# EAGLE library part AS1116 (library ams)
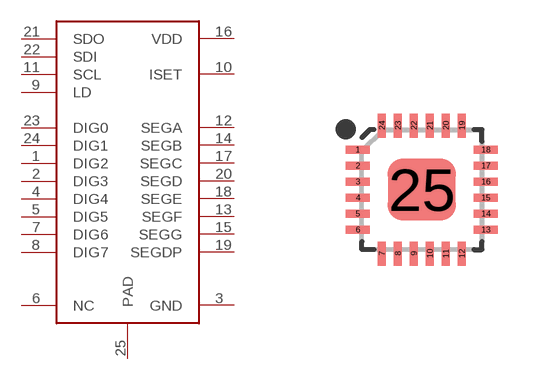
[diagram p0: symbol with the pads of QFN24; footprint QFN24]

Designator prefix -

## AS1116  [QFN24]
1  DIG2
2  DIG3
3  GND
4  DIG4
5  DIG5
6  NC
7  DIG6
8  DIG7
9  LD
10  ISET
11  SCL
12  SEGA
13  SEGF
14  SEGB
15  SEGG
16  VDD
17  SEGC
18  SEGE
19  SEGDP
20  SEGD
21  SDO
22  SDI
23  DIG0
24  DIG1
25  PAD

## Footprint QFN24 (pad centres in mm)
smd 0.6 x 0.2: 1 -1.6,1; 2 -1.6,0.6; 3 -1.6,0.2; 4 -1.6,-0.2; 5 -1.6,-0.6; 6 -1.6,-1; 13 1.6,-1; 14 1.6,-0.6; 15 1.6,-0.2; 16 1.6,0.2; 17 1.6,0.6; 18 1.6,1
smd 0.2 x 0.6: 7 -1,-1.6; 8 -0.6,-1.6; 9 -0.2,-1.6; 10 0.2,-1.6; 11 0.6,-1.6; 12 1,-1.6; 19 1,1.6; 20 0.6,1.6; 21 0.2,1.6; 22 -0.2,1.6; 23 -0.6,1.6; 24 -1,1.6
smd 1.7 x 1.54: 25 0,0